# Altium schematic symbol library TPS70933DRVR.SchLib: 1 symbol
Pins are listed as number, name and electrical type; pins without a type are passive.

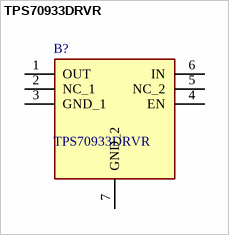
[diagram p0: symbol TPS70933DRVR]

## TPS70933DRVR
designator B?
150-mA 30-V ultra-low-Iq wide-input low-dropout (LDO) regulator with reverse current protection; Manufacturer_Name: Texas Instruments; Geometry.Height: 0.8mm; Mouser Part Number: 595-TPS70933DRVR; Mouser Price/Stock: https://www.mouser.co.uk/ProductDetail/Texas-Instruments/TPS70933DRVR?qs=R0RaSr%2FznUQFEcQCz0C0iw%3D%3D; Manufacturer_Part_Number: TPS70933DRVR; Datasheet Link: http://www.ti.com/lit/gpn/tps709
footprint SON65P200X200X80-7N
pins: 1 OUT, 2 NC_1, 3 GND_1, 4 EN, 5 NC_2, 6 IN, 7 GND_2